# Altium schematic symbol library TLV9002QDGKRQ1.Schlib: 1 symbol
Pins are listed as number, name and electrical type; pins without a type are passive.

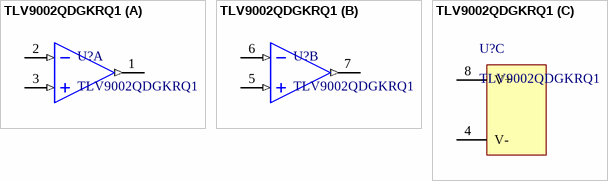
[diagram p0: symbol TLV9002QDGKRQ1]

## TLV9002QDGKRQ1
designator U?
General Purpose Amplifier Circuit Rail-to-Rail 8-VSSOP
part A pins: 1 OUT1 (out), 2 IN1- (in), 3 IN1+ (in)
part B pins: 5 IN2+ (in), 6 IN2- (in), 7 OUT2 (out)
part C pins: 4 V- (power), 8 V+ (power)